# EAGLE library part AZ2850-2A-12DE (library AZ2850-2A-12DE)
Power Relay 12VDC 30A DPST-NO(52.6x34.8x30.7)mm THT Source: Datasheet <https://www.azettler.com/pdfs/az2850.pdf>
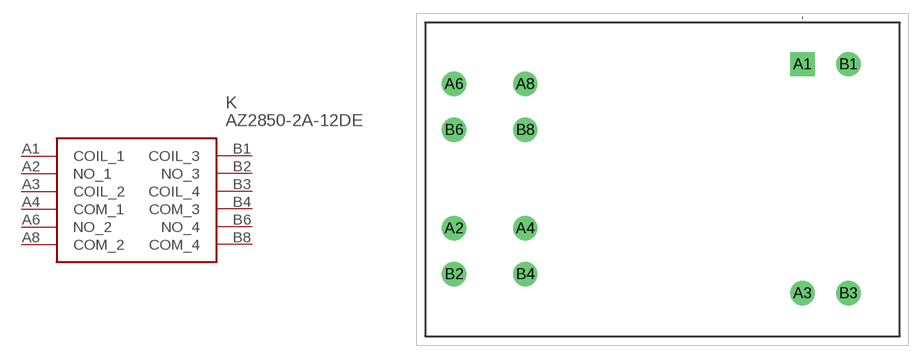
[diagram p0: symbol with the pads of AZ28502A12DE; footprint AZ28502A12DE]

Designator prefix K

## AZ2850-2A-12DE (Description: Power Relay 12VDC 30A DPST-NO(52.6x34.8x30.7)mm THT; Height: 30.7mm; Manufacturer_Name: American Zettler; Manufacturer_Part_Number: AZ2850-2A-12DE)  [AZ28502A12DE]
A1  COIL_1
A2  NO_1
A3  COIL_2
A4  COM_1
A6  NO_2
A8  COM_2
B1  COIL_3
B2  NO_3
B3  COIL_4
B4  COM_3
B6  NO_4
B8  COM_4

## Footprint AZ28502A12DE (pad centres in mm)
AZ2850-2A-12DE-1
drill 1.8 pad 2.7 square: A1 0,0
drill 1.8 pad 2.7: A2 -38.61,-18.2; A3 0,-25.4; A4 -30.71,-18.2; A6 -38.61,-2.2; A8 -30.71,-2.2; B1 5.08,0; B2 -38.61,-23.28; B3 5.08,-25.4; B4 -30.71,-23.28; B6 -38.61,-7.28; B8 -30.71,-7.28